# EAGLE library part CONN_13 (library HW2_ME433)
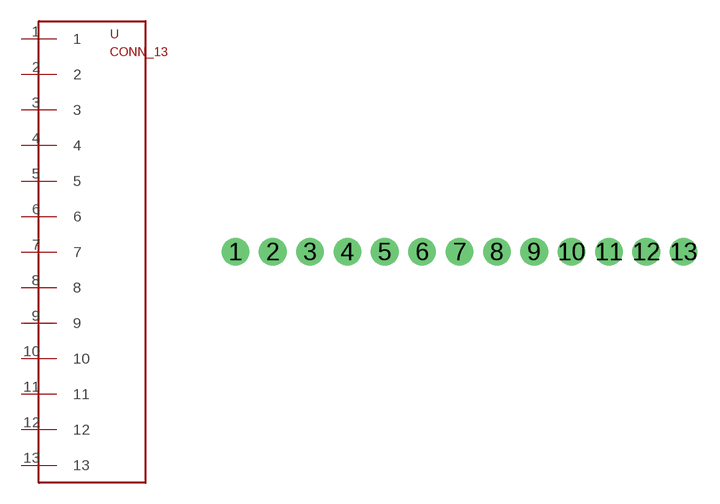
[diagram p3: symbol with the pads of CONN_13; footprint CONN_13]

Designator prefix -

## CONN_13  [CONN_13]
1  1
2  2
3  3
4  4
5  5
6  6
7  7
8  8
9  9
10  10
11  11
12  12
13  13

## Footprint CONN_13 (pad centres in mm)
drill 1.016 pad 1.88: 1 -20.32,2.54; 2 -17.78,2.54; 3 -15.24,2.54; 4 -12.7,2.54; 5 -10.16,2.54; 6 -7.62,2.54; 7 -5.08,2.54; 8 -2.54,2.54; 9 0,2.54; 10 2.54,2.54; 11 5.08,2.54; 12 7.62,2.54; 13 10.16,2.54